# Altium schematic symbol library PIC18F4431.SCHLIB: 1 symbol
Pins are listed as number, name and electrical type; pins without a type are passive.

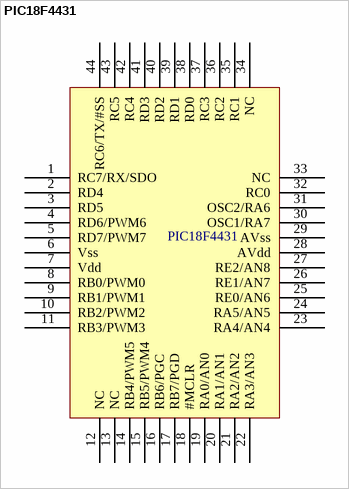
[diagram p0: symbol PIC18F4431]

## PIC18F4431
designator PIC18F4431  (value not drawn)
footprint QFP7x7-G32/N (32-Pin Plastic Thin Quad Flat Pack (TFQP))
pins: 1 RC7/RX/SDO, 2 RD4, 3 RD5, 4 RD6/PWM6, 5 RD7/PWM7, 6 Vss, 7 Vdd, 8 RB0/PWM0, 9 RB1/PWM1, 10 RB2/PWM2, 11 RB3/PWM3, 12 NC, 13 NC, 14 RB4/PWM5, 15 RB5/PWM4, 16 RB6/PGC, 17 RB7/PGD, 18 #MCLR, 19 RA0/AN0, 20 RA1/AN1, 21 RA2/AN2, 22 RA3/AN3, 23 RA4/AN4, 24 RA5/AN5, 25 RE0/AN6, 26 RE1/AN7, 27 RE2/AN8, 28 AVdd, 29 AVss, 30 OSC1/RA7, 31 OSC2/RA6, 32 RC0, 33 NC, 34 NC, 35 RC1, 36 RC2, 37 RC3, 38 RD0, 39 RD1, 40 RD2, 41 RD3, 42 RC4, 43 RC5, 44 RC6/TX/#SS